# Altium footprint library QFN-24_L4.0-W4.0-P0.50-BL.PcbLib: 1 footprints
Each footprint in its own frame and in the unit in brackets; x right, y up, seen from the top. Pads: shape width x height; smd on the part's side, far side on the other; paste and mask are expansions set on the pad; w line width, h text height; cw(c..) or ccw(c..) is an arc to the next point about the centre after c.
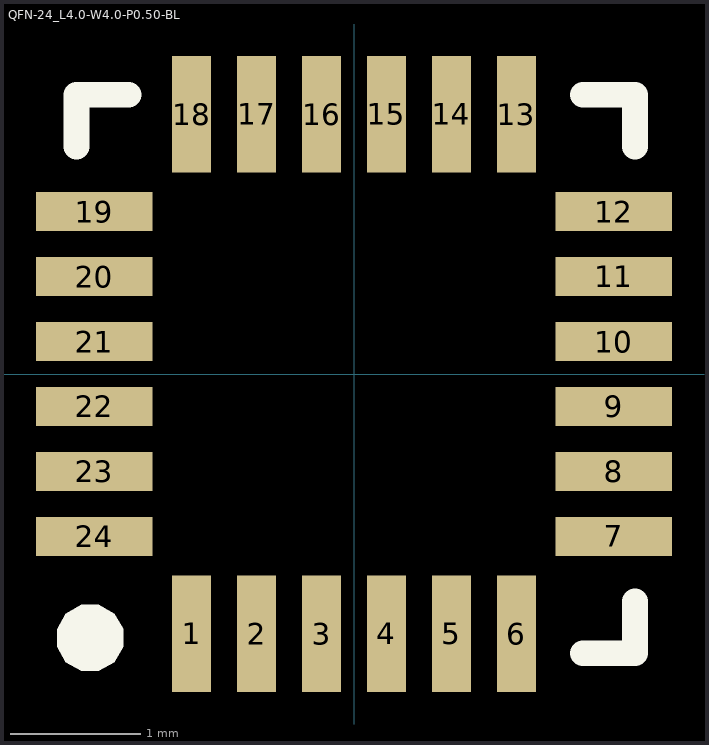
[diagram p0: the footprint, top view; thin cyan lines are the x and y axes]

## QFN-24_L4.0-W4.0-P0.50-BL [mm]
pads (24):
  rect 0.3x0.9 smd paste+0 mask+0.05: 1(-1.25,-2) 2(-0.75,-2) 3(-0.25,-2) 4(0.25,-2) 5(0.75,-2) 6(1.25,-2) 13(1.25,2) 14(0.75,2) 15(0.25,2) 16(-0.25,2) 17(-0.75,2) 18(-1.25,2)
  rect 0.9x0.3 smd paste+0 mask+0.05: 7(2,-1.25) 8(2,-0.75) 9(2,-0.25) 10(2,0.25) 11(2,0.75) 12(2,1.25) 19(-2,1.25) 20(-2,0.75) 21(-2,0.25) 22(-2,-0.25) 23(-2,-0.75) 24(-2,-1.25)
Top Overlay:
  region: -1.778,-2.031 -1.778,-1.963 -1.847,-1.845 -1.965,-1.778 -2.101,-1.778 -2.218,-1.846 -2.286,-1.964 -2.286,-2.1 -2.218,-2.218 -2.101,-2.286 -1.965,-2.286 -1.847,-2.219 -1.778,-2.101 -1.778,-2.033
  lines w0.2: -2.137,1.75 -2.137,2.15 -1.737,2.15 ; 1.763,-2.15 2.163,-2.15 2.163,-1.75 ; 1.763,2.15 2.163,2.15 2.163,1.75